# EAGLE library part ESP32-PICO-D4 (library ESP32-PICO-D4)
ESP32-PICO-D4 QFN48 0.5mm pitch
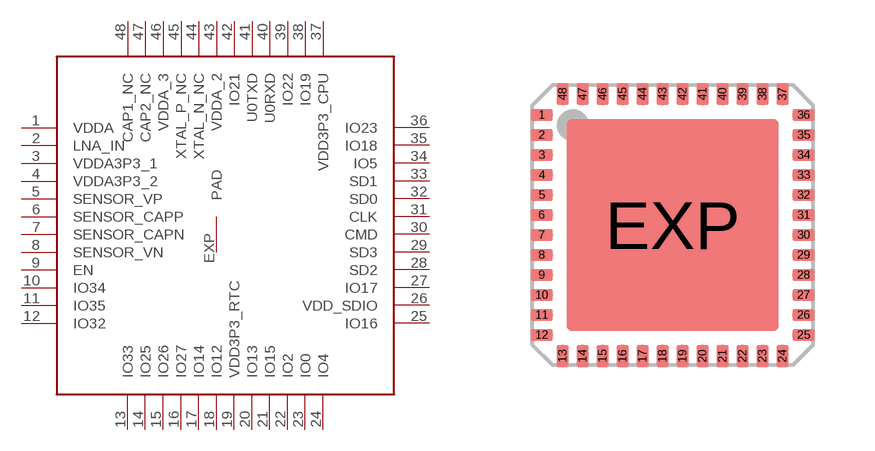
[diagram p0: symbol with the pads of QFN48; footprint QFN48]

Designator prefix -

## ESP32-PICO-D4  [QFN48]
1  VDDA
2  LNA_IN
3  VDDA3P3_1
4  VDDA3P3_2
5  SENSOR_VP
6  SENSOR_CAPP
7  SENSOR_CAPN
8  SENSOR_VN
9  EN
10  IO34
11  IO35
12  IO32
13  IO33
14  IO25
15  IO26
16  IO27
17  IO14
18  IO12
19  VDD3P3_RTC
20  IO13
21  IO15
22  IO2
23  IO0
24  IO4
25  IO16
26  VDD_SDIO
27  IO17
28  SD2
29  SD3
30  CMD
31  CLK
32  SD0
33  SD1
34  IO5
35  IO18
36  IO23
37  VDD3P3_CPU
38  IO19
39  IO22
40  U0RXD
41  U0TXD
42  IO21
43  VDDA_2
44  XTAL_N_NC
45  XTAL_P_NC
46  VDDA_3
47  CAP2_NC
48  CAP1_NC
EXP  PAD

## Footprint QFN48 (pad centres in mm)
48-pin QFN 7 x 7 mm LF48 48 Quad Flat Package No Leads Source: http://v4.cypress.com/cfuploads/img/products/cywusb6934.pdf
smd 0.55 x 0.3: 1 -3.275,2.75; 2 -3.275,2.25; 3 -3.275,1.75; 4 -3.275,1.25; 5 -3.275,0.75; 6 -3.275,0.25; 7 -3.275,-0.25; 8 -3.275,-0.75; 9 -3.275,-1.25; 10 -3.275,-1.75; 11 -3.275,-2.25; 12 -3.275,-2.75; 25 3.275,-2.75; 26 3.275,-2.25; 27 3.275,-1.75; 28 3.275,-1.25; 29 3.275,-0.75; 30 3.275,-0.25; 31 3.275,0.25; 32 3.275,0.75; 33 3.275,1.25; 34 3.275,1.75; 35 3.275,2.25; 36 3.275,2.75
smd 0.3 x 0.55: 13 -2.75,-3.275; 14 -2.25,-3.275; 15 -1.75,-3.275; 16 -1.25,-3.275; 17 -0.75,-3.275; 18 -0.25,-3.275; 19 0.25,-3.275; 20 0.75,-3.275; 21 1.25,-3.275; 22 1.75,-3.275; 23 2.25,-3.275; 24 2.75,-3.275; 37 2.75,3.275; 38 2.25,3.275; 39 1.75,3.275; 40 1.25,3.275; 41 0.75,3.275; 42 0.25,3.275; 43 -0.25,3.275; 44 -0.75,3.275; 45 -1.25,3.275; 46 -1.75,3.275; 47 -2.25,3.275; 48 -2.75,3.275
smd 5.309 x 5.309: EXP 0,0